# Altium integrated library ASPI-0520-4R7M-T2.IntLib: 1 symbol
Pins are listed as number, name and electrical type; pins without a type are passive.

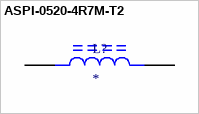
[diagram p0: symbol ASPI-0520-4R7M-T2]

## ASPI-0520-4R7M-T2
designator L?
MP: ASPI-0520-4R7M-T2; Package: None; Price: None; Value: *; Availability: Unavailable
footprint IND_ASPI-0520-4R7M-T2
pins: 1, 2